# Altium schematic symbol library Diode.SchLib: 35 symbols
Pins are listed as number, name and electrical type; pins without a type are passive.

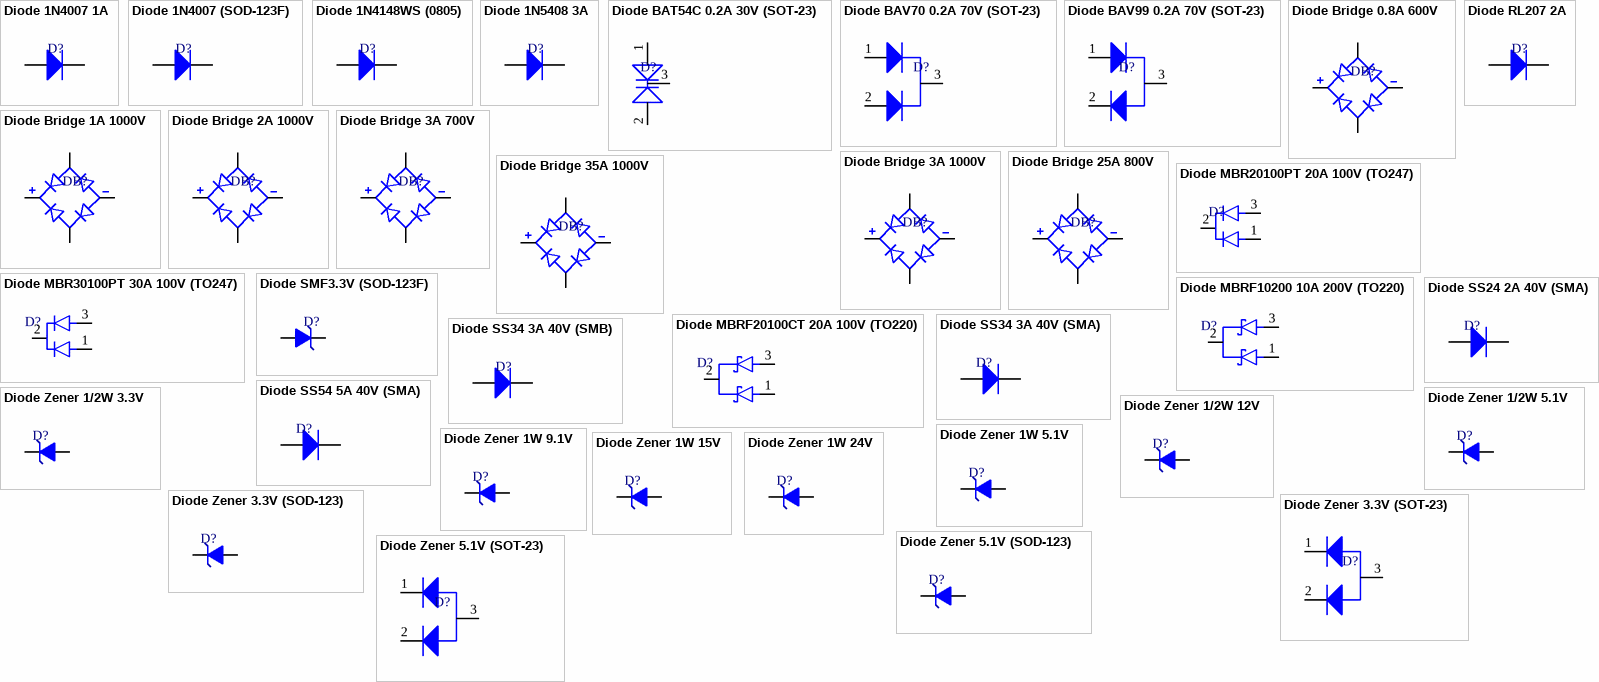
[diagram p0: symbols Diode 1N4007 1A to Diode Zener 5.1V (SOT-23)]

## Diode 1N4007 1A
designator D?, comment Rectifier Diode  (value not drawn)
DIP
footprint Diode DIP 1A
pins: 1 A, 2 K

## Diode 1N4007 (SOD-123F)
designator D?, comment Rectifier Diode  (value not drawn)
SMD
footprint Diode SOD-123F
pins: 1 A, 2 K

## Diode 1N4148WS (0805)
designator D?, comment Rectifier Diode  (value not drawn)
SMD
footprint Diode SOD-323
pins: 1 A, 2 K

## Diode 1N5408 3A
designator D?, comment Rectifier Diode  (value not drawn)
DIP
footprint Diode DIP 3A
pins: 1 A, 2 K

## Diode BAT54C 0.2A 30V (SOT-23)
designator D?, comment Schottky 0.2A 30V  (value not drawn)
SMD
footprint Diode SOT-23
pins: 1, 2, 3

## Diode BAV70 0.2A 70V (SOT-23)
designator D?, comment Fast Recover BAV70 A4  (value not drawn)
SMD
footprint Diode SOT-23
pins: 1 A, 2 K, 3 OUT

## Diode BAV99 0.2A 70V (SOT-23)
designator D?, comment Fast Recover BAV99 A7W  (value not drawn)
SMD
footprint Diode SOT-23
pins: 1 A, 2 K, 3 OUT

## Diode Bridge 0.8A 600V
designator DB?, comment MB6F 0.8A  (value not drawn)
SMD
footprint Diode Bridge SMD SOP-4
pins: 1 +, 2 -, 3 AC1, 4 AC2

## Diode Bridge 1A 1000V
designator DB?, comment DB107S 1A  (value not drawn)
SMD
footprint Diode Bridge SMD SOP-4
pins: 1 +, 2 -, 3 AC1, 4 AC2

## Diode Bridge 2A 1000V
designator DB?, comment DB207S 2A  (value not drawn)
SMD
footprint Diode Bridge SMD SOP-4
pins: 1 +, 2 -, 3 AC1, 4 AC2

## Diode Bridge 3A 700V
designator DB?, comment KBP307 3A  (value not drawn)
DIP
footprint Bridge Diode KBP DIP
pins: 1 +, 2 AC2, 3 AC1, 4 -

## Diode Bridge 3A 1000V
designator DB?, comment KBP310 3A  (value not drawn)
DIP
footprint Bridge Diode KBP DIP
footprint Bridge Diode KBP DIP
pins: 1 +, 2 AC2, 3 AC1, 4 -

## Diode Bridge 25A 800V
designator DB?, comment D25XB80 25A  (value not drawn)
DIP
footprint Bridge Diode SIP-4
pins: 1 +, 2 AC2, 3 AC1, 4 -

## Diode Bridge 35A 1000V
designator DB?, comment GBJ3510 35A  (value not drawn)
DIP
footprint Bridge Diode SIP-4
pins: 1 +, 2 AC2, 3 AC1, 4 -

## Diode MBR20100PT 20A 100V (TO247)
designator D?, comment Schottky 20A 100V  (value not drawn)
DIP
footprint Diode TO247
pins: 1 A1, 2 C, 3 A2

## Diode MBR30100PT 30A 100V (TO247)
designator D?, comment Schottky 30A 100V  (value not drawn)
DIP
footprint Diode TO247
pins: 1 A1, 2 C, 3 A2

## Diode MBRF10200 10A 200V (TO220)
designator D?, comment Schottky 10A 200V  (value not drawn)
DIP
footprint Diode TO220
pins: 1 A1, 2 K, 3 A3

## Diode MBRF20100CT 20A 100V (TO220)
designator D?, comment Schottky 20A 100V  (value not drawn)
DIP
footprint Diode TO220
pins: 1 A1, 2 K, 3 A3

## Diode RL207 2A
designator D?, comment Rectifier Diode  (value not drawn)
DIP
footprint Diode DIP 2A
pins: 1 A, 2 K

## Diode SMF3.3V (SOD-123F)
designator D?, comment TVS Diode SMF3.3V  (value not drawn)
SMD
footprint Diode SOD-123F
pins: 1 A, 2 K

## Diode SS24 2A 40V (SMA)
designator D?, comment Schottky Diode  (value not drawn)
SMD
footprint Diode SMA
pins: 1 A, 2 K

## Diode SS34 3A 40V (SMA)
designator D?, comment Schottky Diode  (value not drawn)
SMD
footprint Diode SMA
pins: 1 A, 2 K

## Diode SS34 3A 40V (SMB)
designator D?, comment Schottky Diode  (value not drawn)
SMD
footprint Diode SMB
pins: 1 A, 2 K

## Diode SS54 5A 40V (SMA)
designator D?, comment Schottky Diode  (value not drawn)
SMD
footprint Diode SMA
pins: 1 A, 2 K

## Diode Zener 1/2W 3.3V
designator D?, comment 3.3V  (value not drawn)
DIP
footprint Diode Zener 1/2W
pins: 1 A, 2 K

## Diode Zener 1/2W 5.1V
designator D?, comment 5.1V  (value not drawn)
DIP
footprint Diode Zener 1/2W
pins: 1 A, 2 K

## Diode Zener 1/2W 12V
designator D?, comment 1/2W 12V  (value not drawn)
DIP
footprint Diode Zener 1/2W
pins: 1 A, 2 K

## Diode Zener 1W 5.1V
designator D?, comment 1W 5.1V  (value not drawn)
DIP
footprint Diode Zener 1W
pins: 1 A, 2 K

## Diode Zener 1W 9.1V
designator D?, comment 1W 9.1V  (value not drawn)
DIP
footprint Diode Zener 1W
pins: 1 A, 2 K

## Diode Zener 1W 15V
designator D?, comment 1W 15V  (value not drawn)
DIP
footprint Diode Zener 1W
pins: 1 A, 2 K

## Diode Zener 1W 24V
designator D?, comment 1W 24V  (value not drawn)
DIP
footprint Diode Zener 1W
pins: 1 A, 2 K

## Diode Zener 3.3V (SOD-123)
designator D?, comment Zener 3.3V  (value not drawn)
SMD
footprint Diode SOD-123
pins: 1 A, 2 K

## Diode Zener 3.3V (SOT-23)
designator D?, comment Zener 3.3V  (value not drawn)
SMD
footprint Diode SOT-23
pins: 1 A, 2 K, 3 OUT

## Diode Zener 5.1V (SOD-123)
designator D?, comment Zener 5.1V  (value not drawn)
SMD
footprint Diode SOD-123
pins: 1 A, 2 K

## Diode Zener 5.1V (SOT-23)
designator D?, comment Zener 5.1V  (value not drawn)
SMD
footprint Diode SOT-23
pins: 1 A, 2 K, 3 OUT